# Altium footprint library SPWM_PS_V1.00.PcbLib: 24 footprints (part 2 of 2)
Each footprint in its own frame and in the unit in brackets; x right, y up, seen from the top. Pads: shape width x height; smd on the part's side, far side on the other; paste and mask are expansions set on the pad; w line width, h text height; cw(c..) or ccw(c..) is an arc to the next point about the centre after c.
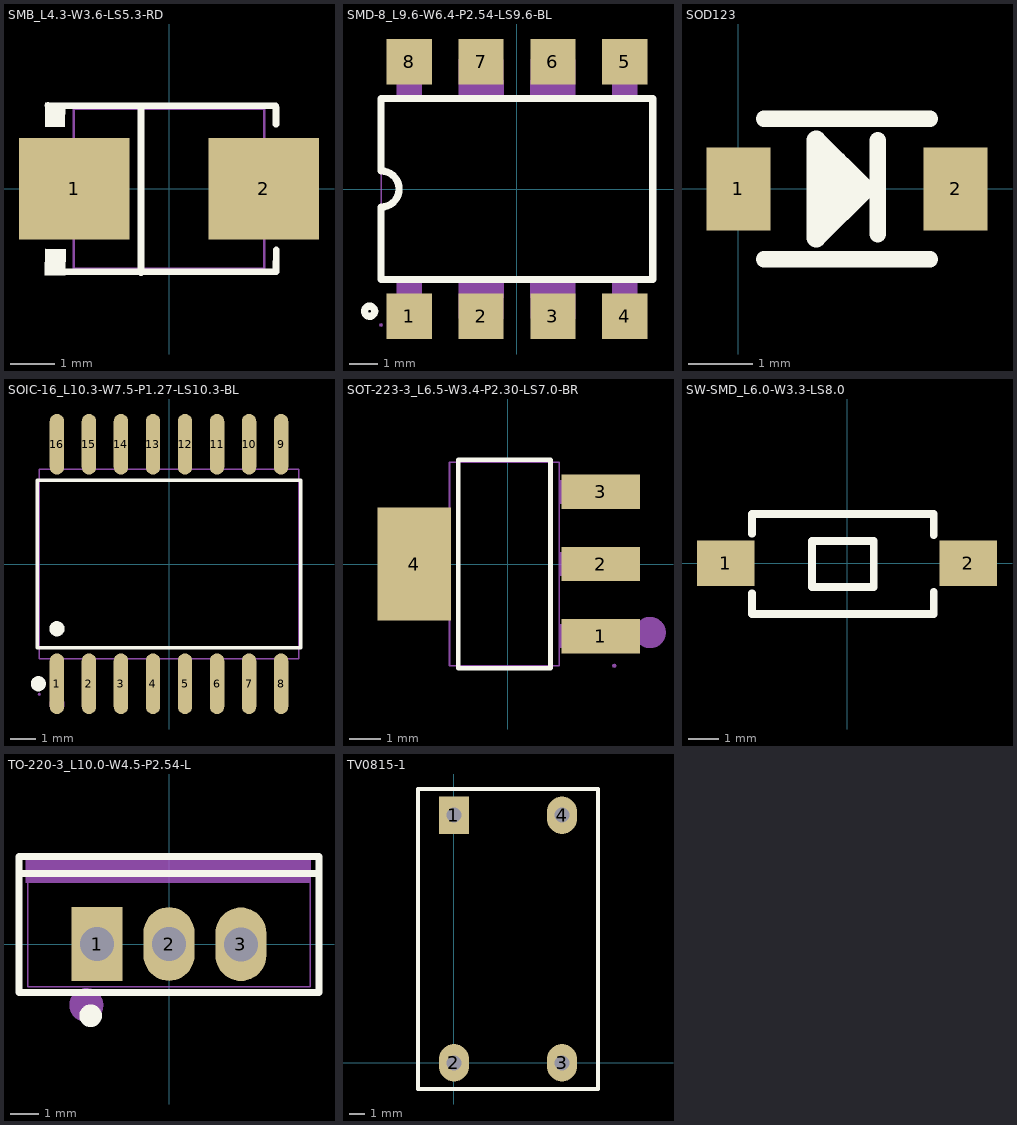
[diagram p1: the footprints below, top view; thin cyan lines are the x and y axes]

## SMB_L4.3-W3.6-LS5.3-RD [mm]
pads (2):
  rect 2.5x2.3 smd: 1(-2.15,0) 2(2.15,0)
Top Overlay:
  region: -2.353,1.949 -2.365,1.399 -2.81,1.405 -2.81,1.949
  region: -2.357,-1.962 -2.344,-1.37 -2.804,-1.364 -2.814,-1.962
  lines w0.152: -2.744,-1.886 2.433,-1.88 ; -2.744,1.886 2.413,1.88 ; -0.635,-1.905 -0.635,1.862 ; 2.424,-1.877 2.431,-1.381 ; 2.424,1.839 2.427,1.462
Mechanical 6:
  region: -2.801,-0.126 -2.801,0.145 -1.715,0.145 -1.715,-0.126
  region: 2.895,-0.108 2.895,0.164 1.809,0.164 1.809,-0.108
  region: 2.487,-0.98 2.487,0.83 2.216,0.83 2.216,-0.98
Mechanical 15:
  region: -2.583,-1.81 -2.602,-1.856 -2.647,-1.875 -2.693,-1.856 -2.712,-1.81 -2.693,-1.764 -2.647,-1.745 -2.602,-1.764
  region: -1.507,-1.042 -2.647,-1.042 -2.647,1.042 -1.507,1.042
  region: 1.507,1.042 2.647,1.042 2.647,-1.042 1.507,-1.042
  lines w0.051: -2.158,-1.81 -2.158,1.81 2.158,1.81 2.158,-1.81 -2.158,-1.81

## SMD-8_L9.6-W6.4-P2.54-LS9.6-BL [mm]
pads (8):
  rect 1.6x1.6 smd: 1(-3.81,-4.5) 2(-1.27,-4.5) 3(1.27,-4.5) 4(3.81,-4.5) 5(3.81,4.5) 6(1.27,4.5) 7(-1.27,4.5) 8(-3.81,4.5)
Top Overlay:
  circle w0.254: c-5.207,-4.318 r0.18
  lines w0.254: -4.8,-3.2 4.8,-3.2 4.8,3.2 -4.8,3.2 -4.8,0.635 cw(c-4.8,0) -4.801,-0.635 -4.8,-3.2
Mechanical 6:
  circle w0.4: c-4.064,-4.699 r0.2
Mechanical 15:
  region: -4.735,-4.81 -4.754,-4.764 -4.8,-4.745 -4.846,-4.764 -4.865,-4.81 -4.846,-4.856 -4.8,-4.875 -4.754,-4.856 -4.735,-4.81
  region: 0.475,-3.838 0.475,-3.165 2.065,-3.165 2.065,-3.838
  region: -2.065,3.165 -2.065,3.838 -0.475,3.838 -0.475,3.165
  region: 0.475,3.165 0.475,3.838 2.065,3.838 2.065,3.165
  region: -2.065,-3.838 -2.065,-3.165 -0.475,-3.165 -0.475,-3.838
  region: 3.373,-3.795 3.373,-3.165 4.247,-3.165 4.247,-3.795
  region: 3.373,3.165 3.373,3.795 4.247,3.795 4.247,3.165
  region: -4.247,3.165 -4.247,3.795 -3.373,3.795 -3.373,3.165
  region: -4.247,-3.795 -4.247,-3.165 -3.373,-3.165 -3.373,-3.795
  region: 2.06,3.83 2.06,4.56 1.52,4.56 1.51,4.57 1.51,4.79 1.5,4.8 1.03,4.8 1.02,4.79 1.02,4.57 0.49,4.57 0.48,4.58 0.48,3.84 0.49,3.83
  region: 4.25,3.78 4.25,4.81 3.57,4.81 3.56,4.8 3.56,4.39 3.57,4.38 3.38,4.38 3.37,4.39 3.37,3.78
  region: -4.25,3.78 -4.25,4.81 -3.57,4.81 -3.56,4.8 -3.56,4.39 -3.57,4.38 -3.38,4.38 -3.37,4.39 -3.37,3.78
  region: -0.48,3.83 -0.48,4.56 -1.02,4.56 -1.03,4.57 -1.03,4.79 -1.04,4.8 -1.51,4.8 -1.52,4.79 -1.52,4.57 -2.05,4.57 -2.06,4.58 -2.06,3.84 -2.05,3.83
  region: 0.48,-3.83 0.48,-4.56 1.02,-4.56 1.03,-4.57 1.03,-4.79 1.04,-4.8 1.51,-4.8 1.52,-4.79 1.52,-4.57 2.05,-4.57 2.06,-4.58 2.06,-3.84 2.05,-3.83
  region: 4.25,-3.78 4.25,-4.81 3.57,-4.81 3.56,-4.8 3.56,-4.39 3.57,-4.38 3.38,-4.38 3.37,-4.39 3.37,-3.78
  region: -4.25,-3.78 -4.25,-4.81 -3.57,-4.81 -3.56,-4.8 -3.56,-4.39 -3.57,-4.38 -3.38,-4.38 -3.37,-4.39 -3.37,-3.78
  region: -2.06,-3.83 -2.06,-4.56 -1.52,-4.56 -1.51,-4.57 -1.51,-4.79 -1.5,-4.8 -1.03,-4.8 -1.02,-4.79 -1.02,-4.57 -0.49,-4.57 -0.48,-4.58 -0.48,-3.84 -0.49,-3.83
  lines w0.051: -4.8,-3.175 4.8,-3.175 4.8,3.175 -4.8,3.175 -4.8,-3.175

## SOD123 [mm]
height 1.1
pads (2):
  rect 1x1.3 smd: 1(0,0) 2(3.4,0)
Top Overlay:
  lines w0.254: 0.4,-1.1 3,-1.1 ; 0.4,1.1 3,1.1 ; 2.183,-0.71 2.183,0.763
  lines w0.305: 1.219,0 1.981,0 ; 1.418,-0.563 1.418,0.563 ; 1.548,-0.329 1.548,0.433 ; 1.981,0 1.219,0.762 1.219,-0.762 1.981,0

## SOIC-16_L10.3-W7.5-P1.27-LS10.3-BL [mm]
pads (16):
  oval 0.574x2.401 smd: 1(-4.445,-4.75) 2(-3.175,-4.75) 3(-1.905,-4.75) 4(-0.635,-4.75) 5(0.635,-4.75) 6(1.905,-4.75) 7(3.175,-4.75) 8(4.445,-4.75) 9(4.445,4.75) 10(3.175,4.75) 11(1.905,4.75) 12(0.635,4.75) 13(-0.635,4.75) 14(-1.905,4.75) 15(-3.175,4.75) 16(-4.445,4.75)
Top Overlay:
  circle w0.3: c-5.184,-4.75 r0.15
  circle w0.3: c-4.445,-2.569 r0.15
  lines w0.152: -5.226,-3.321 5.226,-3.321 5.226,3.321 -5.226,3.321 -5.226,-3.321
Mechanical 6:
  circle w0.3: c-4.445,-5.563 r0.15
Mechanical 15:
  region: 4.24,4.338 4.24,3.74 4.65,3.74 4.65,4.338
  region: 4.24,5.162 4.24,4.327 4.65,4.327 4.65,5.162
  region: 2.97,4.338 2.97,3.74 3.38,3.74 3.38,4.338
  region: 2.97,5.162 2.97,4.327 3.38,4.327 3.38,5.162
  region: 1.7,4.338 1.7,3.74 2.11,3.74 2.11,4.338
  region: 1.7,5.162 1.7,4.327 2.11,4.327 2.11,5.162
  region: 0.43,4.338 0.43,3.74 0.84,3.74 0.84,4.338
  region: 0.43,5.162 0.43,4.327 0.84,4.327 0.84,5.162
  region: -0.84,4.338 -0.84,3.74 -0.43,3.74 -0.43,4.338
  region: -0.84,5.162 -0.84,4.327 -0.43,4.327 -0.43,5.162
  region: -2.11,4.338 -2.11,3.74 -1.7,3.74 -1.7,4.338
  region: -2.11,5.162 -2.11,4.327 -1.7,4.327 -1.7,5.162
  region: -3.38,4.338 -3.38,3.74 -2.97,3.74 -2.97,4.338
  region: -3.38,5.162 -3.38,4.327 -2.97,4.327 -2.97,5.162
  region: -4.65,4.338 -4.65,3.74 -4.24,3.74 -4.24,4.338
  region: -4.65,5.162 -4.65,4.327 -4.24,4.327 -4.24,5.162
  region: 4.24,-4.338 4.24,-3.74 4.65,-3.74 4.65,-4.338
  region: 4.24,-5.162 4.24,-4.327 4.65,-4.327 4.65,-5.162
  region: 2.97,-4.338 2.97,-3.74 3.38,-3.74 3.38,-4.338
  region: 2.97,-5.162 2.97,-4.327 3.38,-4.327 3.38,-5.162
  region: 1.7,-4.338 1.7,-3.74 2.11,-3.74 2.11,-4.338
  region: 1.7,-5.162 1.7,-4.327 2.11,-4.327 2.11,-5.162
  region: 0.43,-4.338 0.43,-3.74 0.84,-3.74 0.84,-4.338
  region: 0.43,-5.162 0.43,-4.327 0.84,-4.327 0.84,-5.162
  region: -0.84,-4.338 -0.84,-3.74 -0.43,-3.74 -0.43,-4.338
  region: -0.84,-5.162 -0.84,-4.327 -0.43,-4.327 -0.43,-5.162
  region: -2.11,-4.338 -2.11,-3.74 -1.7,-3.74 -1.7,-4.338
  region: -2.11,-5.162 -2.11,-4.327 -1.7,-4.327 -1.7,-5.162
  region: -3.38,-4.338 -3.38,-3.74 -2.97,-3.74 -2.97,-4.338
  region: -3.38,-5.162 -3.38,-4.327 -2.97,-4.327 -2.97,-5.162
  region: -4.65,-4.338 -4.65,-3.74 -4.24,-3.74 -4.24,-4.338
  region: -4.65,-5.162 -4.65,-4.327 -4.24,-4.327 -4.24,-5.162
  region: -5.086,-5.162 -5.104,-5.118 -5.15,-5.099 -5.196,-5.118 -5.214,-5.163 -5.196,-5.207 -5.15,-5.226 -5.104,-5.207
  lines w0.051: -5.15,-3.75 5.15,-3.75 5.15,3.75 -5.15,3.75 -5.15,-3.75

## SOT-223-3_L6.5-W3.4-P2.30-LS7.0-BR [mm]
pads (4):
  rect 2.5x1.1 smd: 1(2.97,-2.3) 2(2.97,0) 3(2.97,2.3)
  rect 2.34x3.6 smd: 4(-2.97,0)
Top Overlay:
  lines w0.152: -1.571,-3.326 1.371,-3.326 1.371,3.326 -1.571,3.326 -1.571,-3.326
Mechanical 6:
  circle w0.5: c4.552,-2.188 r0.25
Mechanical 15:
  region: -3.6,-1.5 -3.6,1.5 -2.85,1.5 -2.85,-1.5
  region: -2.86,-1.5 -2.86,1.5 -1.84,1.5 -1.84,-1.5
  region: 2.65,-2.675 2.65,-1.925 3.4,-1.925 3.4,-2.675
  region: 1.64,-2.675 1.64,-1.925 2.66,-1.925 2.66,-2.675
  region: 2.65,-0.375 2.65,0.375 3.4,0.375 3.4,-0.375
  region: 1.64,-0.375 1.64,0.375 2.66,0.375 2.66,-0.375
  region: 2.65,1.925 2.65,2.675 3.4,2.675 3.4,1.925
  region: 1.64,1.925 1.64,2.675 2.66,2.675 2.66,1.925
  region: 3.465,-3.25 3.446,-3.204 3.4,-3.185 3.354,-3.204 3.335,-3.25 3.354,-3.296 3.4,-3.315 3.446,-3.296
  lines w0.051: -1.85,-3.25 1.65,-3.25 1.65,3.25 -1.85,3.25 -1.85,-3.25

## SW-SMD_L6.0-W3.3-LS8.0 [mm]
pads (2):
  rect 1.9x1.5 smd: 1(-4,0) 2(4,0)
Top Overlay:
  lines w0.254: -3.137,-0.981 -3.137,-1.668 2.863,-1.668 2.863,-0.935 ; -3.137,0.981 -3.137,1.632 2.863,1.632 2.863,0.935 ; -1.153,-0.78 -1.153,0.744 0.879,0.744 0.879,-0.78 -1.153,-0.78

## TO-220-3_L10.0-W4.5-P2.54-L [mm]
pads (3):
  rect 1.8x2.6 hole 1.2: 1(-2.54,0.005)
  oval 1.8x2.6 hole 1.2: 2(0,0.005) 3(2.54,-0.005)
Top Overlay:
  lines w0.254: -5.3,2.495 5.3,2.495 ; -5.301,-1.704 -5.301,3.089 -5.301,3.094 5.301,3.094 5.301,-1.704 -5.301,-1.704
  lines w0.4: -2.77,-2.33 ccw(c-2.769,-2.53) -2.769,-2.73 ccw(c-2.769,-2.53) -2.768,-2.33
Mechanical 6:
  circle w0.6: c-2.921,-2.154 r0.3
  region: -5.06,3.01 -5.06,2.17 4.99,2.17 4.99,3.01
Mechanical 15:
  region: 2.19,-0.33 2.19,0.32 2.89,0.32 2.89,-0.33
  region: -0.35,-0.32 -0.35,0.33 0.35,0.33 0.35,-0.32
  region: -2.89,-0.32 -2.89,0.33 -2.19,0.33 -2.19,-0.32
  region: -4.935,3 -4.954,3.046 -5,3.065 -5.046,3.046 -5.065,3 -5.046,2.954 -5,2.935 -4.954,2.954
  lines w0.051: -5,-1.5 5,-1.5 5,3 -5,3 -5,-1.5

## TV0815-1 [mm]
pads (4):
  rect 2x2.5 hole 1: 1(0,16.5)
  oval 2x2.5 hole 1: 2(0,0) 3(7.2,0) 4(7.2,16.5)
Top Overlay:
  lines w0.254: -2.4,-1.75 -2.4,18.25 9.6,18.25 9.6,-1.75 -2.4,-1.75